# Altium integrated library VEML60xx.IntLib: 1 symbol
Pins are listed as number, name and electrical type; pins without a type are passive.

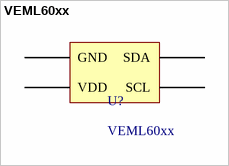
[diagram p0: symbol VEML60xx]

## VEML60xx
designator U?
footprint VEML60xx
pins: 1 GND, 2 SDA, 3 SCL, 4 VDD